# Altium footprint library 2017_elec主板.PcbLib: 32 footprints (part 2 of 2)
Each footprint in its own frame and in the unit in brackets; x right, y up, seen from the top. Pads: shape width x height; smd on the part's side, far side on the other; paste and mask are expansions set on the pad; w line width, h text height; cw(c..) or ccw(c..) is an arc to the next point about the centre after c.
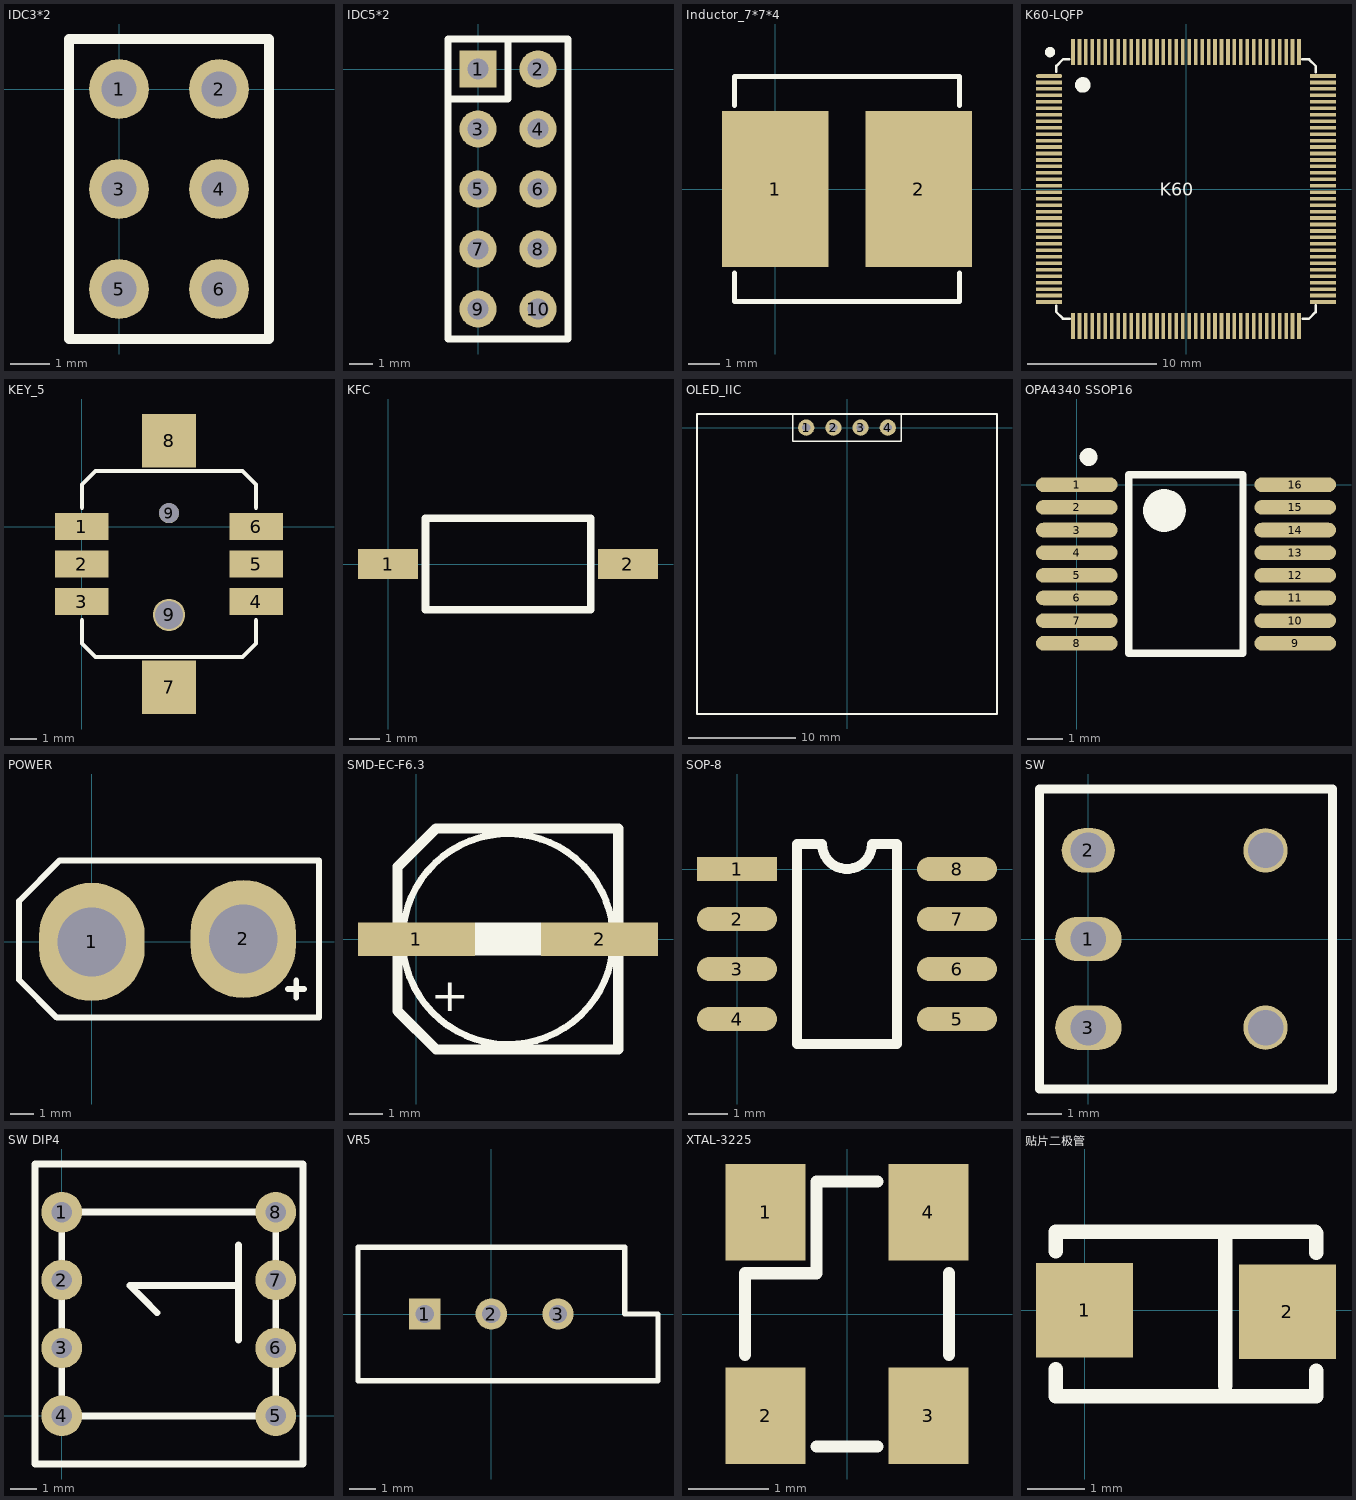
[diagram p1: the footprints below, top view; thin cyan lines are the x and y axes]

## IDC3*2 [mil]
pads (6):
  round 60 hole 35.43: 1(0,0) 2(100,0) 3(0,-100) 4(100,-100) 5(0,-200) 6(100,-200)
Top Overlay:
  lines w10: -50,-250 150,-250 150,50 -50,50 -50,-250
3D body: height 336.22, standoff -118.11, extent -49.99,-250.01 50.01,49.99
3D body: height 336.22, standoff -118.11, extent 50.01,-250 150.01,50

## IDC5*2 [mil]
pads (10):
  rect 62x62 hole 35.43: 1(0,0)
  round 62 hole 35.43: 2(100,0) 3(0,-100) 4(100,-100) 5(0,-200) 6(100,-200) 7(0,-300) 8(100,-300) 9(0,-400) 10(100,-400)
Top Overlay:
  lines w12: -50,-50 50,-50 50,50 ; -50,-450 -50,50 150,50 150,-450 -50,-450
3D body: height 397.64, standoff -59.06, extent -50,-450 150,50

## Inductor_7*7*4 [mm]
pads (2):
  rect 3.4x5 smd: 1(0,0) 2(4.6,0)
Top Overlay:
  lines w0.15: -1.3,-2.675 -1.3,-3.6 5.9,-3.6 5.9,-2.675 ; -1.3,2.675 -1.3,3.6 5.9,3.6 5.9,2.675

## K60-LQFP [mm]
pads (144):
  oval 2.032x0.28 smd: 1(-10.6,8.75)
  rect 2.032x0.28 smd: 2(-10.6,8.25) 3(-10.6,7.75) 4(-10.6,7.25) 5(-10.6,6.75) 6(-10.6,6.25) 7(-10.6,5.75) 8(-10.6,5.25) 9(-10.6,4.75) 10(-10.6,4.25) 11(-10.6,3.75) 12(-10.6,3.25) 13(-10.6,2.75) 14(-10.6,2.25) 15(-10.6,1.75) 16(-10.6,1.25) 17(-10.6,0.75) 18(-10.6,0.25) 19(-10.6,-0.25) 20(-10.6,-0.75) 21(-10.6,-1.25) 22(-10.6,-1.75) 23(-10.6,-2.25) 24(-10.6,-2.75) 25(-10.6,-3.25) 26(-10.6,-3.75) 27(-10.6,-4.25) 28(-10.6,-4.75) 29(-10.6,-5.25) 30(-10.6,-5.75) 31(-10.6,-6.25) 32(-10.6,-6.75) 33(-10.6,-7.25) 34(-10.6,-7.75) 35(-10.6,-8.25) 36(-10.6,-8.75) 73(10.6,-8.75) 74(10.6,-8.25) 75(10.6,-7.75) 76(10.6,-7.25) 77(10.6,-6.75) 78(10.6,-6.25) 79(10.6,-5.75) 80(10.6,-5.25) 81(10.6,-4.75) 82(10.6,-4.25) 83(10.6,-3.75) 84(10.6,-3.25) 85(10.6,-2.75) 86(10.6,-2.25) 87(10.6,-1.75) 88(10.6,-1.25) 89(10.6,-0.75) 90(10.6,-0.25) 91(10.6,0.25) 92(10.6,0.75) 93(10.6,1.25) 94(10.6,1.75) 95(10.6,2.25) 96(10.6,2.75) 97(10.6,3.25) 98(10.6,3.75) 99(10.6,4.25) 100(10.6,4.75) 101(10.6,5.25) 102(10.6,5.75) 103(10.6,6.25) 104(10.6,6.75) 105(10.6,7.25) 106(10.6,7.75) 107(10.6,8.25) 108(10.6,8.75)
  rect 0.28x2.032 smd: 37(-8.75,-10.6) 38(-8.25,-10.6) 39(-7.75,-10.6) 40(-7.25,-10.6) 41(-6.75,-10.6) 42(-6.25,-10.6) 43(-5.75,-10.6) 44(-5.25,-10.6) 45(-4.75,-10.6) 46(-4.25,-10.6) 47(-3.75,-10.6) 48(-3.25,-10.6) 49(-2.75,-10.6) 50(-2.25,-10.6) 51(-1.75,-10.6) 52(-1.25,-10.6) 53(-0.75,-10.6) 54(-0.25,-10.6) 55(0.25,-10.6) 56(0.75,-10.6) 57(1.25,-10.6) 58(1.75,-10.6) 59(2.25,-10.6) 60(2.75,-10.6) 61(3.25,-10.6) 62(3.75,-10.6) 63(4.25,-10.6) 64(4.75,-10.6) 65(5.25,-10.6) 66(5.75,-10.6) 67(6.25,-10.6) 68(6.75,-10.6) 69(7.25,-10.6) 70(7.75,-10.6) 71(8.25,-10.6) 72(8.75,-10.6) 109(8.75,10.6) 110(8.25,10.6) 111(7.75,10.6) 112(7.25,10.6) 113(6.75,10.6) 114(6.25,10.6) 115(5.75,10.6) 116(5.25,10.6) 117(4.75,10.6) 118(4.25,10.6) 119(3.75,10.6) 120(3.25,10.6) 121(2.75,10.6) 122(2.25,10.6) 123(1.75,10.6) 124(1.25,10.6) 125(0.75,10.6) 126(0.25,10.6) 127(-0.25,10.6) 128(-0.75,10.6) 129(-1.25,10.6) 130(-1.75,10.6) 131(-2.25,10.6) 132(-2.75,10.6) 133(-3.25,10.6) 134(-3.75,10.6) 135(-4.25,10.6) 136(-4.75,10.6) 137(-5.25,10.6) 138(-5.75,10.6) 139(-6.25,10.6) 140(-6.75,10.6) 141(-7.25,10.6) 142(-7.75,10.6) 143(-8.25,10.6) 144(-8.75,10.6)
Top Overlay:
  circle w0.6: c-7.988,8.06 r0.3
  circle w0.4: c-10.528,10.6 r0.2
  lines w0.2: -10.047,-9.05 -10.047,-9.511 -9.525,-10.033 -9.017,-10.033 ; -10.033,9.076 -10.033,9.525 -9.511,10.047 -9.05,10.047 ; 9.017,10.033 9.525,10.033 10.047,9.511 10.047,9.05 ; 9.05,-10.047 9.511,-10.047 10.033,-9.525 10.033,-9.017
  text "K60" at -2.032,-0.508 h1
3D body: height 1.6, standoff 0, extent -11.012,-11.008 10.988,10.992

## KEY_5 [mm]
pads (10):
  rect 2x1 smd: 1(0,0) 2(0,-1.4) 3(0,-2.8) 4(6.5,-2.8) 5(6.5,-1.4) 6(6.5,0)
  rect 2x2 smd: 7(3.25,-6) 8(3.25,3.2)
  round 1.2 hole 1.05: 9(3.25,-3.3)
  round 0.75 hole 0.75: 9(3.25,0.5)
Top Overlay:
  lines w0.15: 0,-3.5 0,-4.375 0.5,-4.875 6,-4.875 6.5,-4.375 6.5,-3.5 ; 0,0.7 0,1.575 0.5,2.075 6,2.075 6.5,1.575 6.5,0.7

## KFC [mm]
pads (2):
  rect 2x1 smd: 1(0,0) 2(8,0)
Top Overlay:
  lines w0.254: 1.249,-1.524 1.249,1.524 6.756,1.524 6.756,-1.524 1.269,-1.524

## OLED_IIC [mil]
pads (4):
  round 60 hole 30: 1(-150,0) 2(-50,0) 3(50,0) 4(150,0)
Top Overlay:
  lines w5.91: -551.18,-1052.36 551.18,-1052.36 551.18,50 -551.18,50 -551.18,-1052.36 ; -200,-50 -200,50 200,50 200,-50 -200,-50
3D body: height 336.22, standoff -118.11, extent -200,-50 200,50

## OPA4340 SSOP16 [mil] "SSOP, 16-Leads, Body 4.91x3.90mm, Pitch 0.64mm, IPC Medium Density"
height 68.9
pads (16):
  oval 90x16.14 smd: 1(0,0) 2(0,-25) 3(0,-50) 4(0,-75) 5(0,-100) 6(0,-125) 7(0,-150) 8(0,-175) 9(241,-175) 10(241,-150) 11(241,-125) 12(241,-100) 13(241,-75) 14(241,-50) 15(241,-25) 16(241,0)
Top Overlay:
  circle w9.84: c13,30.51 r4.92
  circle w23.62: c96.66,-28.44 r11.81
  lines w7.87: 57.29,-185.93 57.29,10.93 183.28,10.93 183.28,-185.93 57.29,-185.93

## POWER [mm]
pads (2):
  oval 4.615x5.159 hole 3: 1(0,0) 2(6.604,0.127)
Top Overlay:
  lines w0.254: 8.56,-2.057 9.246,-2.057 ; 8.915,-2.438 8.915,-1.676 ; -3.175,-1.651 -3.175,1.778 -1.397,3.556 9.906,3.556 9.906,-3.302 -1.524,-3.302 -3.175,-1.651

## SMD-EC-F6.3 [mm]
pads (2):
  rect 3.5x1 smd: 1(0,0) 2(5.475,0)
Top Overlay:
  rectangle: 1.746,-0.496 3.73,0.5
  lines w0.203: 5.667,1.156 ccw(c2.736,0.002) 5.667,1.154
  lines w0.305: 0.587,-3.303 -0.564,-2.152 -0.564,2.163 0.587,3.314 ; 0.589,-3.305 6.036,-3.305 6.036,3.309 0.592,3.309
  text "+" at 0.43,-2.164 h1

## SOP-8 [mil]
pads (8):
  rect 80x24 smd: 1(0,0)
  oval 80x24 smd: 2(0,-50) 3(0,-100) 4(0,-150) 5(220,-150) 6(220,-100) 7(220,-50) 8(220,0)
Top Overlay:
  lines w10: 60,-175 160,-175 160,25 135,25 cw(c110,25) 85,25 60,25 60,-175
3D body: height 73.87, standoff -1.02, extent -14.77,-173.25 234.78,23.75

## SW [mil]
pads (5):
  oval 75x50 hole 40: 1(0,0) 3(0,-100)
  oval 60x50 hole 40: 2(0,100)
  round 50 hole 40: ""(200,100) ""(200,-100)
Top Overlay:
  lines w10: -55.12,-169.29 -55.12,169.29 275.59,169.29 275.59,-169.29 -55.12,-169.29

## SW DIP4 [mil]
pads (8):
  round 60 hole 30: 1(0,300) 2(0,200) 3(0,100) 4(0,0) 5(315,0) 6(315,100) 7(315,200) 8(315,300)
Top Overlay:
  lines w10: 0,370.87 -39.37,370.87 -39.37,-70.87 355,-70.87 355,370.87 0.95,370.87 ; 140,151.81 120,171.81 100,191.81 260,191.81 ; 260,111.81 260,151.81 260,251.81 ; 0,0 0,300 315,300 315,0 0,0

## VR5 [mm]
pads (3):
  rect 1.2x1.2 hole 0.7: 1(-2.54,0)
  round 1.2 hole 0.7: 2(0,0) 3(2.54,0)
Top Overlay:
  lines w0.2: -5.08,-2.54 6.35,-2.54 6.35,0 5.08,0 5.08,2.54 -5.08,2.54 -5.08,-2.54

## XTAL-3225 [mm]
pads (4):
  rect 1x1.2 smd: 1(-1.016,1.27) 2(-1.016,-1.27) 3(1.016,-1.27) 4(1.016,1.27)
Top Overlay:
  lines w0.15: -1.27,-0.508 -1.27,0.508 -0.381,0.508 -0.381,1.651 0.381,1.651 ; -0.381,-1.651 0.381,-1.651 ; 1.27,-0.508 1.27,0.508

## 贴片二极管 [mm]
pads (2):
  rect 1.7x1.65 smd: 1(0,0) 2(3.556,-0.025)
Top Overlay:
  lines w0.254: -0.508,-1.033 -0.508,-1.503 4.06,-1.503 4.064,-1.499 4.064,-1.061 ; -0.508,1.033 -0.508,1.372 4.039,1.372 4.064,1.346 4.064,1.011 ; 2.464,-1.321 2.464,1.27